# EAGLE library part SPTA-1,5/6-3,81 (library Federkraftklemme - SPTA-1,5)
Name des Bauteiles: Federzugklemme 6pol. 1,5mm² Daten: SPTA 1,5/3-3,81 / Anschl. 45° Artikelnummer: #135352 Datenblatt:www.phoenix.de
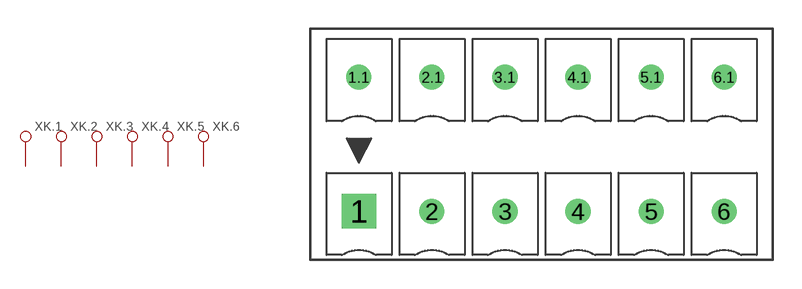
[diagram p0: symbol with the pads of SPTA_1,5/6.3,81; footprint SPTA_1,5/6.3,81]

Designator prefix XK; gates .1=1 .2=1 .3=1 .4=1 .5=1 .6=1

## SPTA-1,5/6-3,81THT  [SPTA_1,5/6.3,81]
1  .1:.1
1.1  .1:.1
2  .2:.1
2.1  .2:.1
3  .3:.1
3.1  .3:.1
4  .4:.1
4.1  .4:.1
5  .5:.1
5.1  .5:.1
6  .6:.1
6.1  .6:.1

## Footprint SPTA_1,5/6.3,81 (pad centres in mm)
drill 1.2 square: 1 2.54,2.54
drill 0.8: 1.1 2.54,9.54; 2 6.35,2.54; 2.1 6.35,9.54; 3 10.16,2.54; 3.1 10.16,9.54; 4 13.97,2.54; 4.1 13.97,9.54; 5 17.78,2.54; 5.1 17.78,9.54; 6 21.59,2.54; 6.1 21.59,9.54